# Altium schematic symbol library SI5330G-B00219-GM.SchLib: 1 symbol
Pins are listed as number, name and electrical type; pins without a type are passive.

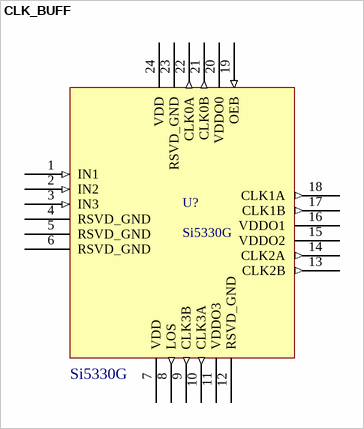
[diagram p0: symbol CLK_BUFF]

## CLK_BUFF
designator U?, comment Si5330G
Clock buffer; ComponentLink1Description: Mouser page; ComponentLink1URL: https://www.mouser.com/ProductDetail/Silicon-Labs/SI5330G-B00219-GM?qs=sGAEpiMZZMsatOyXbMdKoYv3TeGL3e5gqeECvrc0RbU%3d
pins: 1 IN1 (in), 2 IN2 (in), 3 IN3 (in), 4 RSVD_GND, 5 RSVD_GND, 6 RSVD_GND, 7 VDD (power), 8 LOS (out), 9 CLK3B (out), 10 CLK3A (out), 11 VDDO3, 12 RSVD_GND, 13 CLK2B (out), 14 CLK2A (out), 15 VDDO2, 16 VDDO1, 17 CLK1B (out), 18 CLK1A (out), 19 OEB (in), 20 VDDO0, 21 CLK0B (out), 22 CLK0A (out), 23 RSVD_GND, 24 VDD (power)